# EAGLE library part SW-2X6 (library ABI)
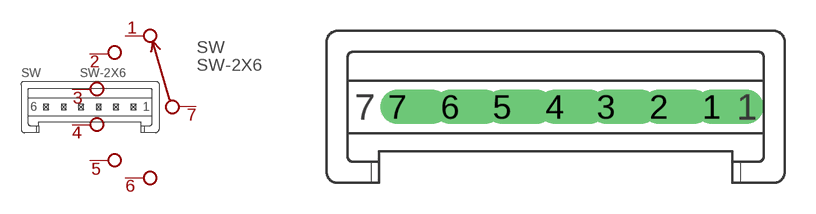
[diagram p1: symbol with the pads of SW-1X6; footprint SW-1X6]

Designator prefix SW

## SW-2X6  [SW-1X6]
1  1
2  2
3  3
4  4
5  5
6  6
7  7

## Footprint SW-1X6 (pad centres in mm)
drill 0.813 pad 1.676 offset: 1 7.627,0; 2 5.064,0; 3 2.5,0; 4 0,0; 5 -2.563,0; 6 -5.064,0; 7 -7.627,0